# Altium schematic symbol library U_MAX3243.SchLib: 1 symbol
Pins are listed as number, name and electrical type; pins without a type are passive.

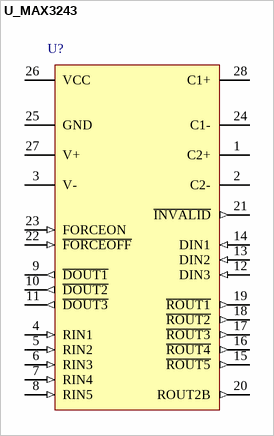
[diagram p0: symbol U_MAX3243]

## U_MAX3243
designator U?
pins: 1 C2+, 2 C2-, 3 V-, 4 RIN1 (in), 5 RIN2 (in), 6 RIN3 (in), 7 RIN4 (in), 8 RIN5 (in), 9 ~{DOUT1} (out), 10 ~{DOUT2} (out), 11 ~{DOUT3} (out), 12 DIN3 (in), 13 DIN2 (in), 14 DIN1 (in), 15 ~{ROUT5} (out), 16 ~{ROUT4} (out), 17 ~{ROUT3} (out), 18 ~{ROUT2} (out), 19 ~{ROUT1} (out), 20 ROUT2B (out), 21 ~{INVALID} (out), 22 ~{FORCEOFF} (in), 23 FORCEON (in), 24 C1-, 25 GND (power), 26 VCC, 27 V+, 28 C1+